# Altium footprint library USB_B_micro.PcbLib: 1 footprints
Each footprint in its own frame and in the unit in brackets; x right, y up, seen from the top. Pads: shape width x height; smd on the part's side, far side on the other; paste and mask are expansions set on the pad; w line width, h text height; cw(c..) or ccw(c..) is an arc to the next point about the centre after c.
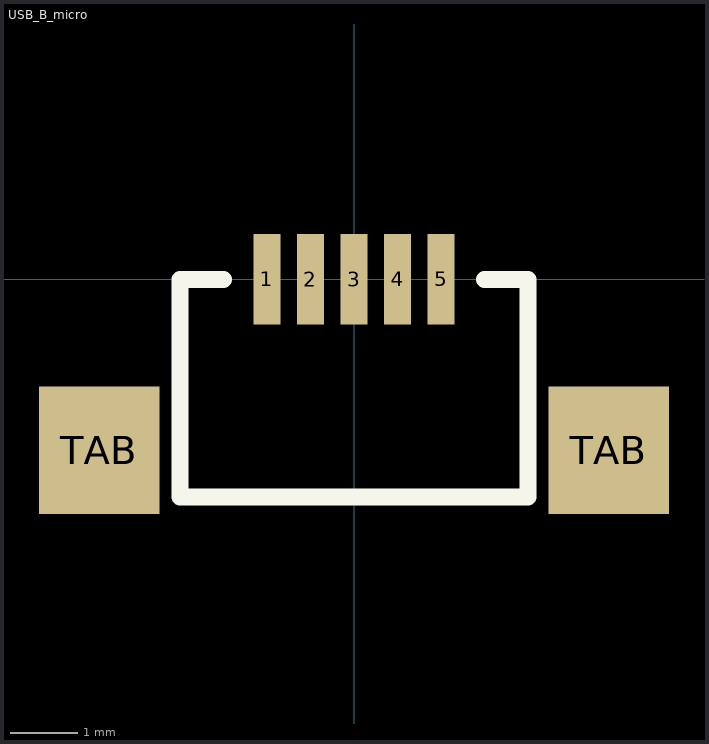
[diagram p0: the footprint, top view; thin cyan lines are the x and y axes]

## USB_B_micro [mm]
height 2.8
pads (7):
  rect 0.4x1.35 smd: 1(-1.3,0) 2(-0.65,0) 3(0,0) 4(0.65,0) 5(1.3,0)
  rect 1.8x1.9 smd: TAB(-3.8,-2.55) TAB(3.8,-2.55)
Top Overlay:
  lines w0.254: -1.95,0 -2.6,0 -2.6,-3.25 2.6,-3.25 2.6,0 1.95,0
3D body: height 2.77, standoff -0.26, extent -4.039,-5.255 4.04,0.309